# Altium footprint library 1206 CAP.PcbLib: 1 footprints
Each footprint in its own frame and in the unit in brackets; x right, y up, seen from the top. Pads: shape width x height; smd on the part's side, far side on the other; paste and mask are expansions set on the pad; w line width, h text height; cw(c..) or ccw(c..) is an arc to the next point about the centre after c.
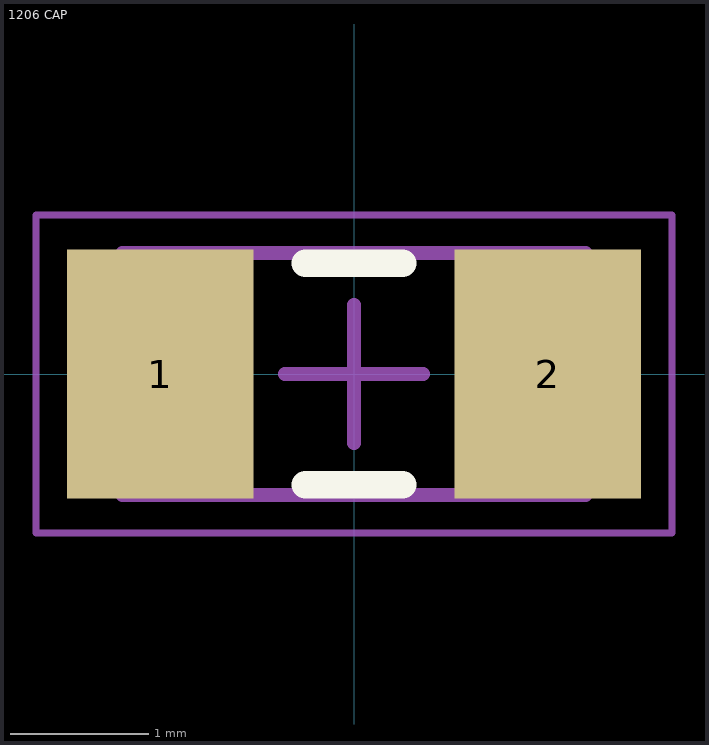
[diagram p0: the footprint, top view; thin cyan lines are the x and y axes]

## 1206 CAP [mm]
height 0.9
pads (2):
  rect 1.35x1.8 smd: 1(-1.4,0) 2(1.4,0)
Top Overlay:
  lines w0.2: -0.35,-0.8 0.35,-0.8 ; -0.35,0.8 0.35,0.8
Mechanical 13:
  lines w0.1: -1.675,-0.875 1.675,-0.875 1.675,0.875 -1.675,0.875 -1.675,-0.875
Mechanical 15:
  lines w0.05: -2.3,-1.15 2.3,-1.15 2.3,1.15 -2.3,1.15 -2.3,-1.15
  lines w0.1: -0.5,0 0.5,0 ; 0,-0.5 0,0.5
3D body "1206 CAP.step": height 0.9, standoff 0, extent -1.675,-0.875 1.675,0.875